# EAGLE library part TPS2041 (library barthess)
Power distribution switch
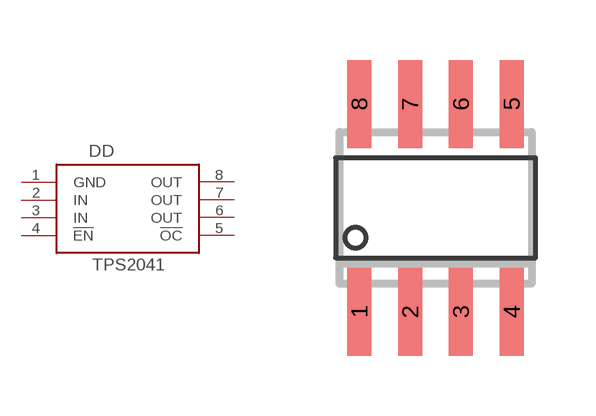
[diagram p20: symbol with the pads of SO-08; footprint SO-08]

Designator prefix DD

## TPS2041D  [SO-08]
1  GND  pwr
2  IN  pwr
3  IN  pwr
4  !EN  in
5  !OC  oc
6  OUT  pwr
7  OUT  pwr
8  OUT  pwr

## Footprint SO-08 (pad centres in mm)
Small Outline Narrow Plastic Gull Wing 150-mil body, package type SN
smd 0.6 x 2.2: 1 -1.905,-2.6; 2 -0.635,-2.6; 3 0.635,-2.6; 4 1.905,-2.6; 5 1.905,2.6; 6 0.635,2.6; 7 -0.635,2.6; 8 -1.905,2.6